# Altium integrated library BMI160.IntLib: 2 symbols
Pins are listed as number, name and electrical type; pins without a type are passive.

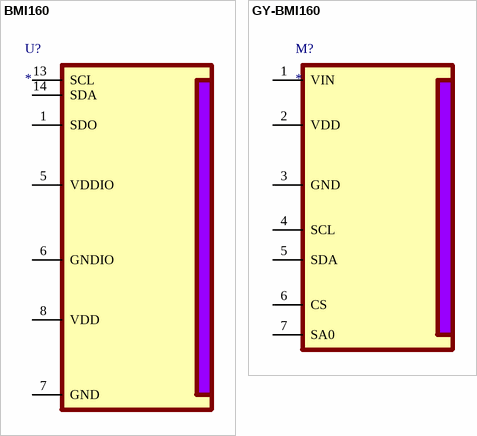
[diagram p0: symbols BMI160 to GY-BMI160]

## BMI160
designator U?
footprint BMI160
pins: 1 SDO, 5 VDDIO, 6 GNDIO, 7 GND, 8 VDD, 13 SCL, 14 SDA

## GY-BMI160
designator M?
footprint GY-BMI160
footprint GY-BMI160 DNP
pins: 1 VIN, 2 VDD, 3 GND, 4 SCL, 5 SDA, 6 CS, 7 SA0